# Altium schematic symbol library eUSR_SchLibrary - Drivers.SchLib: 8 symbols
Pins are listed as number, name and electrical type; pins without a type are passive.

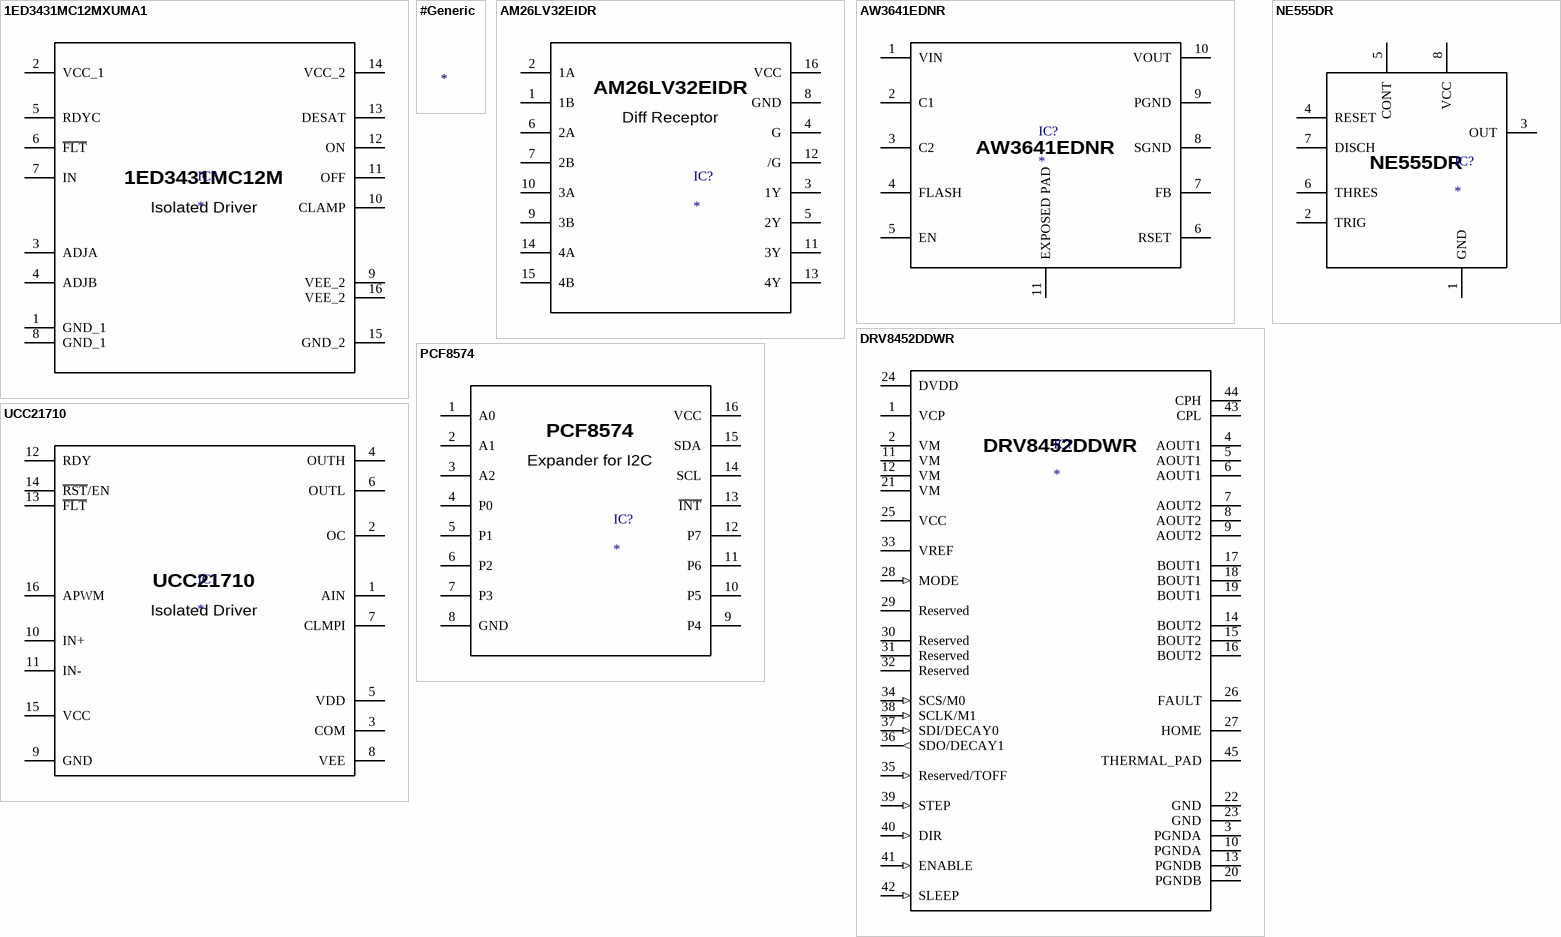
[diagram p0: symbols 1ED3431MC12MXUMA1 to UCC21710]

## 1ED3431MC12MXUMA1
designator IC?
ComponentLink1Description: Datasheet; ComponentLink1URL: *; ComponentLink2Description: Distributor Link; ComponentLink2URL: *
pins: 1 GND_1 (power), 2 VCC_1 (power), 3 ADJA, 4 ADJB, 5 RDYC, 6 ~{FLT}, 7 IN, 8 GND_1 (power), 9 VEE_2, 10 CLAMP, 11 OFF, 12 ON, 13 DESAT, 14 VCC_2, 15 GND_2, 16 VEE_2
text: 1ED3431MC12M; Isolated Driver

## #Generic
designator ?
Manufacturing: #####; Value: #####; Package: #####; Price: #####; PN: #####; ComponentLink1Description: Datasheet; ComponentLink1URL: #####; ComponentLink2Description: Distributor Link; ComponentLink2URL: #####; Distributor: #####; Distributor PN: #####

## AM26LV32EIDR
designator IC?
ComponentLink1Description: Datasheet; ComponentLink1URL: *; ComponentLink2Description: Distributor Link; ComponentLink2URL: *
pins: 1 1B (power), 2 1A (power), 3 1Y (power), 4 G (power), 5 2Y (power), 6 2A (power), 7 2B (power), 8 GND (power), 9 3B (power), 10 3A (power), 11 3Y (power), 12 /G (power), 13 4Y (power), 14 4A (power), 15 4B (power), 16 VCC (power)
text: Diff Receptor

## AW3641EDNR
designator IC?
ComponentLink1Description: Datasheet; ComponentLink1URL: *; ComponentLink2Description: Distributor Link; ComponentLink2URL: *
pins: 1 VIN (power), 2 C1 (power), 3 C2 (power), 4 FLASH (power), 5 EN (power), 6 RSET (power), 7 FB (power), 8 SGND (power), 9 PGND (power), 10 VOUT (power), 11 EXPOSED PAD (power)

## DRV8452DDWR
designator IC?
ComponentLink1Description: Datasheet; ComponentLink1URL: *; ComponentLink2Description: Distributor Link; ComponentLink2URL: *
pins: 1 VCP, 2 VM, 3 PGNDA, 4 AOUT1, 5 AOUT1, 6 AOUT1, 7 AOUT2, 8 AOUT2, 9 AOUT2, 10 PGNDA, 11 VM, 12 VM, 13 PGNDB, 14 BOUT2, 15 BOUT2, 16 BOUT2, 17 BOUT1, 18 BOUT1, 19 BOUT1, 20 PGNDB, 21 VM, 22 GND, 23 GND, 24 DVDD, 25 VCC, 26 FAULT, 27 HOME, 28 MODE (in), 29 Reserved, 30 Reserved, 31 Reserved, 32 Reserved, 33 VREF, 34 SCS/M0 (in), 35 Reserved/TOFF (in), 36 SDO/DECAY1 (out), 37 SDI/DECAY0 (in), 38 SCLK/M1 (in), 39 STEP (in), 40 DIR (in), 41 ENABLE (in), 42 SLEEP (in), 43 CPL, 44 CPH, 45 THERMAL_PAD

## NE555DR
designator IC?
ComponentLink1Description: Datasheet; ComponentLink1URL: *; ComponentLink2Description: Distributor Link; ComponentLink2URL: *
pins: 1 GND, 2 TRIG, 3 OUT, 4 RESET, 5 CONT, 6 THRES, 7 DISCH, 8 VCC

## PCF8574
designator IC?
ComponentLink1Description: Datasheet; ComponentLink1URL: *; ComponentLink2Description: Distributor Link; ComponentLink2URL: *
pins: 1 A0 (power), 2 A1 (power), 3 A2 (power), 4 P0 (power), 5 P1 (power), 6 P2 (power), 7 P3 (power), 8 GND (power), 9 P4 (power), 10 P5 (power), 11 P6 (power), 12 P7 (power), 13 ~{INT} (power), 14 SCL (power), 15 SDA (power), 16 VCC (power)
text: Expander for I2C

## UCC21710
designator IC?
ComponentLink1Description: Datasheet; ComponentLink1URL: *; ComponentLink2Description: Distributor Link; ComponentLink2URL: *
pins: 1 AIN, 2 OC, 3 COM, 4 OUTH, 5 VDD (power), 6 OUTL, 7 CLMPI, 8 VEE, 9 GND (power), 10 IN+, 11 IN-, 12 RDY, 13 ~{FLT}, 14 ~{RST}/EN, 15 VCC (power), 16 APWM
text: Isolated Driver